# Altium footprint library Radial_400.PcbLib: 1 footprints
Each footprint in its own frame and in the unit in brackets; x right, y up, seen from the top. Pads: shape width x height; smd on the part's side, far side on the other; paste and mask are expansions set on the pad; w line width, h text height; cw(c..) or ccw(c..) is an arc to the next point about the centre after c.
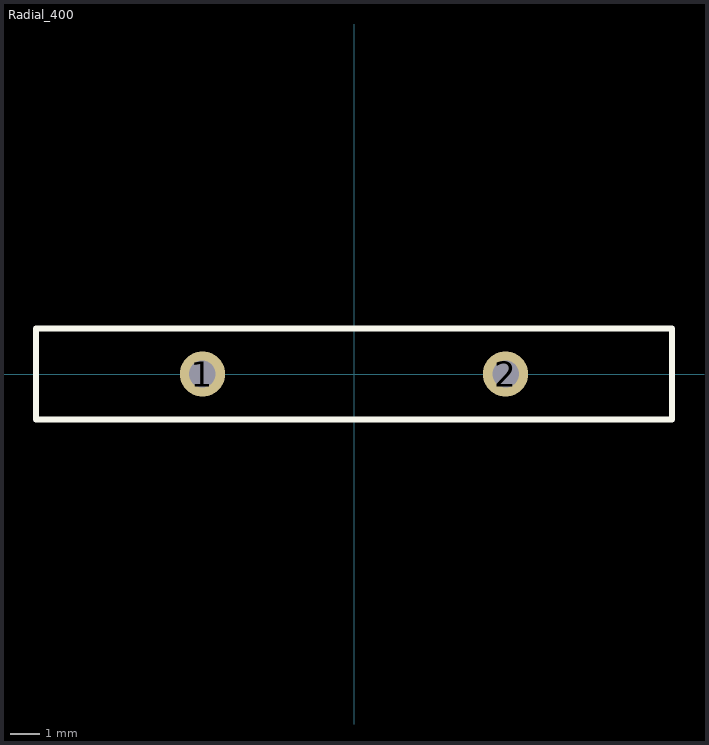
[diagram p0: the footprint, top view; thin cyan lines are the x and y axes]

## Radial_400 [mil] "Poly Fuse, Trip max 16A, 30V"
pads (2):
  round 60 hole 35: 1(-200,0) 2(200,0)
Top Overlay:
  lines w8: -420,-60 -420,60 420,60 420,-60 -420,-60